# Altium footprint library EVB_M1.PcbLib: 24 footprints (part 2 of 2)
Each footprint in its own frame and in the unit in brackets; x right, y up, seen from the top. Pads: shape width x height; smd on the part's side, far side on the other; paste and mask are expansions set on the pad; w line width, h text height; cw(c..) or ccw(c..) is an arc to the next point about the centre after c.
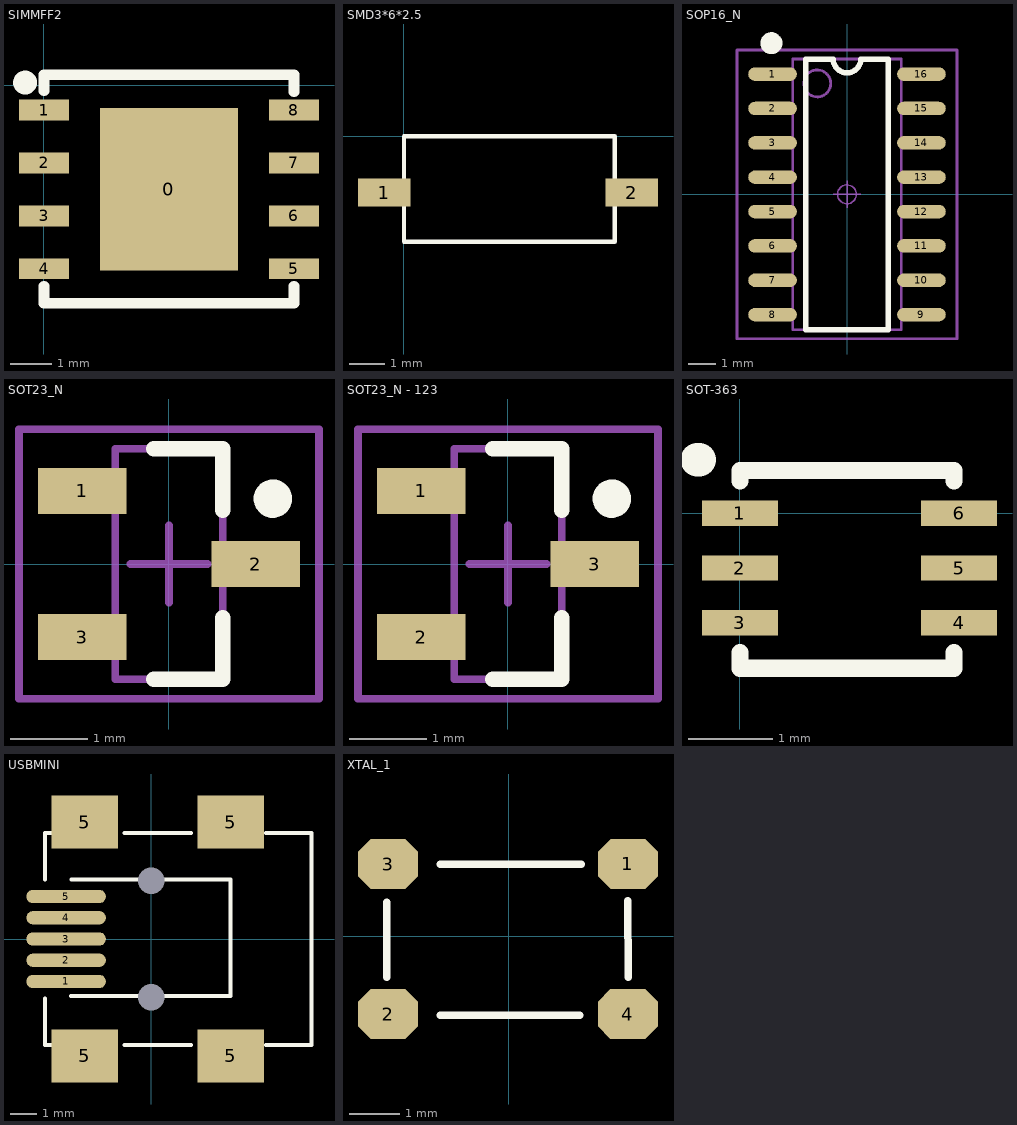
[diagram p1: the footprints below, top view; thin cyan lines are the x and y axes]

## SIMMFF2 [mm]
pads (9):
  rect 3.3x3.9 smd: 0(3,-2.5)
  rect 1.2x0.5 smd: 1(0,-0.595) 2(0,-1.865) 3(0,-3.135) 4(0,-4.405) 5(6,-4.405) 6(6,-3.135) 7(6,-1.865) 8(6,-0.595)
Top Overlay:
  circle w0.457: c-0.454,0.065 r0.057
  lines w0.254: 0,-4.826 0,-5.232 6,-5.232 6,-4.82 ; 0,-0.127 0,0.254 6,0.254 6,-0.158

## SMD3*6*2.5 [mm]
pads (2):
  rect 1.5x0.8 smd: 1(-0.559,-1.6) 2(6.477,-1.6)
Top Overlay:
  lines w0.127: 0,-3 6,-3 6,0 0,0 0,-3

## SOP16_N [mm]
pads (16):
  oval 1.8x0.5 smd: 1(-2.75,4.445) 2(-2.75,3.175) 3(-2.75,1.905) 4(-2.75,0.635) 5(-2.75,-0.635) 6(-2.75,-1.905) 7(-2.75,-3.175) 8(-2.75,-4.445) 9(2.75,-4.445) 10(2.75,-3.175) 11(2.75,-1.905) 12(2.75,-0.635) 13(2.75,0.635) 14(2.75,1.905) 15(2.75,3.175) 16(2.75,4.445)
Top Overlay:
  circle w0.5: c-2.794,5.588 r0.155
  lines w0.2: -1.524,5 -1.524,-5 1.524,-5 1.524,5
  lines w0.203: -1.524,5 -0.508,5 ccw(c0,5) 0,4.492 ccw(c0,5) 0.508,5 1.524,5
Mechanical 13:
  circle w0.1: c-1.1,4.1 r0.5
  lines w0.1: -2,-5 2,-5 2,5 -2,5 -2,-5
Mechanical 15:
  circle w0.05: c0,0 r0.35
  lines w0.05: -0.5,0 0.5,0 ; 0,-0.5 0,0.5
  lines w0.1: -4.064,-5.334 4.064,-5.334 4.064,5.334 -4.064,5.334 -4.064,-5.334
3D body "SOP16.STEP": height 1.9, standoff 0, extent -3.003,-5 3.003,5

## SOT23_N [mm]
pads (3):
  rect 1.15x0.6 smd: 1(-1.125,0.95) 2(1.125,0) 3(-1.125,-0.95)
Top Overlay:
  circle w0.25: c1.35,0.85 r0.125
  lines w0.2: -0.2,-1.5 0.7,-1.5 0.7,-0.7 ; -0.2,1.5 0.7,1.5 0.7,0.7
Mechanical 13:
  lines w0.1: -0.7,-1.5 0.7,-1.5 0.7,1.5 -0.7,1.5 -0.7,-1.5
Mechanical 15:
  lines w0.1: -0.5,0 0.5,0 ; 0,-0.5 0,0.5 ; -1.95,-1.75 1.95,-1.75 1.95,1.75 -1.95,1.75 -1.95,-1.75
3D body "sot23-3.STEP": height 1, standoff -0.02, extent -1.333,-1.499 1.143,1.421

## SOT23_N - 123 [mm]
pads (3):
  rect 1.15x0.6 smd: 1(-1.125,0.95) 2(-1.125,-0.95) 3(1.125,0)
Top Overlay:
  circle w0.25: c1.35,0.85 r0.125
  lines w0.2: -0.2,-1.5 0.7,-1.5 0.7,-0.7 ; -0.2,1.5 0.7,1.5 0.7,0.7
Mechanical 13:
  lines w0.1: -0.7,-1.5 0.7,-1.5 0.7,1.5 -0.7,1.5 -0.7,-1.5
Mechanical 15:
  lines w0.1: -0.5,0 0.5,0 ; 0,-0.5 0,0.5 ; -1.95,-1.75 1.95,-1.75 1.95,1.75 -1.95,1.75 -1.95,-1.75
3D body "sot23-3.STEP": height 1, standoff -0.02, extent -1.333,-1.499 1.143,1.421

## SOT-363 [mm]
pads (6):
  rect 0.9x0.3 smd: 1(0,0) 2(0,-0.65) 3(0,-1.3) 4(2.6,-1.3) 5(2.6,-0.65) 6(2.6,0)
Top Overlay:
  lines w0.203: 0,-1.651 0,-1.838 2.54,-1.838 2.54,-1.651 ; 0,0.381 0,0.508 2.54,0.508 2.54,0.381
  lines w0.4: -0.508,0.635 -0.483,0.635

## USBMINI [mm]
pads (11):
  round 0 hole 1: 0(0,-2.2) 0(0,2.2)
  oval 3x0.5 smd: 1(-3.2,-1.6) 2(-3.2,-0.8) 3(-3.2,0) 4(-3.2,0.8) 5(-3.2,1.6)
  rect 2.5x2 smd: 5(-2.5,-4.4) 5(-2.5,4.4) 5(3,-4.4) 5(3,4.4)
Top Overlay:
  lines w0.15: -4,-2.25 -4,-4 -3.75,-4 ; -4,2.25 -4,4 -3.75,4 ; -3.01,-2.15 3,-2.15 3,2.25 -3,2.25 ; -1,-4 1.5,-4 ; -1,4 1.5,4 ; 4.327,-4 6,-4 ; 4.327,4 6,4 ; 6.05,-4 6.05,4
3D body "14386.stp": height 3.93, standoff -1, extent -3.4,-4.9 5.85,5

## XTAL_1 [mm]
pads (4):
  oct 1.2x1 smd: 1(2.388,1.448) 2(-2.412,-1.552) 3(-2.412,1.448) 4(2.385,-1.552)
Top Overlay:
  lines w0.15: -2.438,-0.813 -2.438,0.686 ; -1.372,-1.575 1.422,-1.575 ; -1.372,1.448 1.448,1.448 ; 2.388,-0.813 2.388,0.711